# Altium footprint library Panasonic_ERJ_0402.PcbLib: 1 footprints
Each footprint in its own frame and in the unit in brackets; x right, y up, seen from the top. Pads: shape width x height; smd on the part's side, far side on the other; paste and mask are expansions set on the pad; w line width, h text height; cw(c..) or ccw(c..) is an arc to the next point about the centre after c.
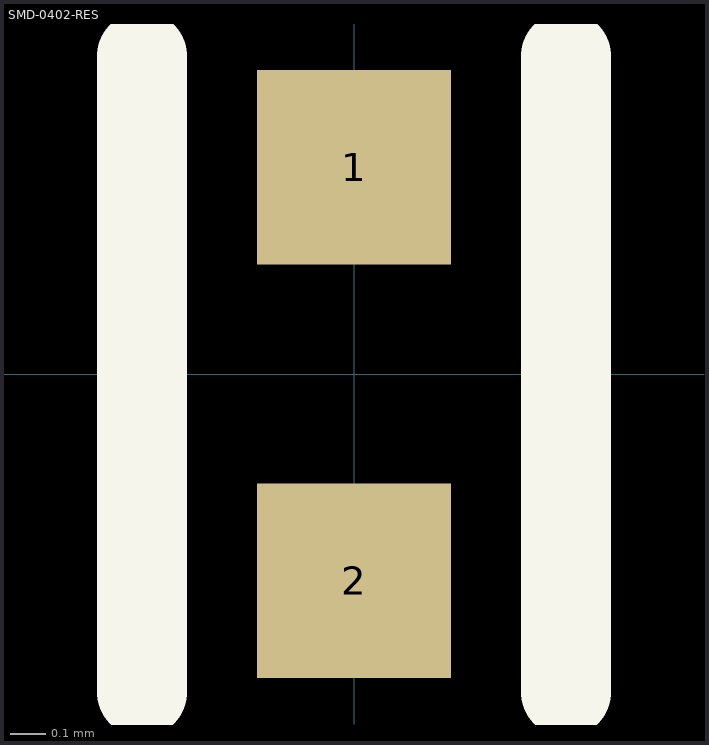
[diagram p0: the footprint, top view; thin cyan lines are the x and y axes]

## SMD-0402-RES [mm]
pads (2):
  rect 0.55x0.55 smd: 1(0,0.584) 2(0,-0.584)
Top Overlay:
  lines w0.254: -0.6,-0.9 -0.6,0.9 ; 0.6,-0.9 0.6,0.9
3D body "resistor0402.step": height 0.41, standoff 0, extent -0.275,-0.575 0.275,0.575